# Altium schematic symbol library USB.SchLib: 1 symbol
Pins are listed as number, name and electrical type; pins without a type are passive.

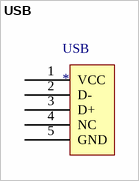
[diagram p0: symbol USB]

## USB
designator USB
pins: 1 VCC (power), 2 D- (power), 3 D+ (power), 4 NC (power), 5 GND (power)